# Altium schematic symbol library MP7740DN-LF-Z.SchLib: 1 symbol
Pins are listed as number, name and electrical type; pins without a type are passive.

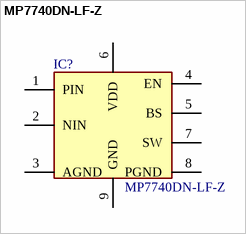
[diagram p0: symbol MP7740DN-LF-Z]

## MP7740DN-LF-Z
designator IC?
Audio Amplifiers 15W Class-D Mono Single End Audio Amp; Manufacturer_Name: Monolithic Power Systems (MPS); Geometry.Height: 1.7mm; Mouser Part Number: 946-MP7740DNLFZ; Mouser Price/Stock: https://www.mouser.co.uk/ProductDetail/Monolithic-Power-Systems-MPS/MP7740DN-LF-Z?qs=rC7bBWoQAAkZXpb7FkuwCg%3D%3D; Manufacturer_Part_Number: MP7740DN-LF-Z; Datasheet Link: https://componentsearchengine.com/Datasheets/1/MP7740DN-LF-Z.pdf
footprint SOIC127P600X170-9N
pins: 1 PIN, 2 NIN, 3 AGND, 4 EN, 5 BS, 6 VDD, 7 SW, 8 PGND, 9 GND